# Altium schematic symbol library WE-RFI.SchLib: 80 symbols (part 1 of 2)
Pins are listed as number, name and electrical type; pins without a type are passive.

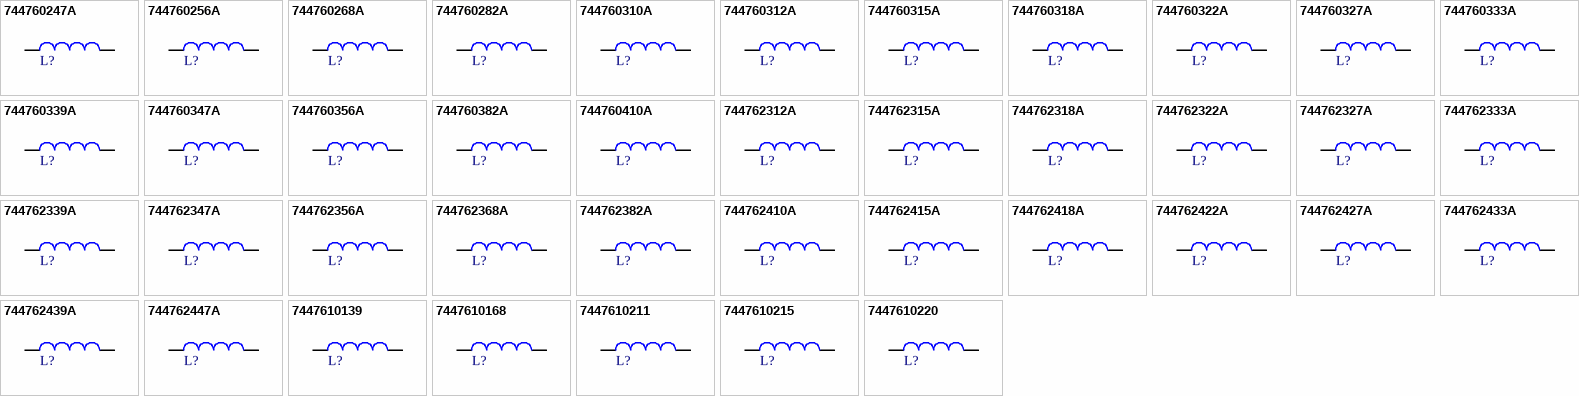
[diagram p0: symbols 744760247A to 7447610220]

## 744760247A
designator L?, comment 470nH  (value not drawn)
WE-RFI Ferrite SMT Inductor, size 0805, 470nH, 500mA, 375MHz; Manufacturer Part Number: 744760247A; Manufacturer: Wurth Elektronik; Case/Size Code: 0805; DC Resistance Max: 500mOhm; Impedance @100MHz: 280Ohm; Impedance Max: 4725Ohm; Impedance Max Test Condition: 700MHz; Inductance Tolerance: +/-5%; Q Factor Min: 45; Category: RF Inductors; Match Code: WE-RFI; ComponentLink1Description: Website Link; ComponentLink1URL: https://www.we-online.com/redexpert/article/744760247A?ad; ComponentLink2Description: Datasheet Link; ComponentLink2URL: https://www.we-online.com/redexpert/spec/744760247A?ad; Mount: Surface Mount; Operating Temperature Max: 85°C; Operating Temperature Min: -40°C; Packaging: Tape and Reel; Length: 2mm; Width: 1.25mm; Height: 1.2mm; Inductance: 470nH; Rated Current: 500mA; Self Resonant Frequency: 375MHz
footprint WE-RFI_0805
simulation model 0805A_744760247A_0.47u
pins: 1, 2

## 744760256A
designator L?, comment 560nH  (value not drawn)
WE-RFI Ferrite SMT Inductor, size 0805, 560nH, 450mA, 340MHz; Manufacturer Part Number: 744760256A; Manufacturer: Wurth Elektronik; Case/Size Code: 0805; DC Resistance Max: 550mOhm; Impedance @100MHz: 350Ohm; Impedance Max: 5570Ohm; Impedance Max Test Condition: 600MHz; Inductance Tolerance: +/-5%; Q Factor Min: 45; Category: RF Inductors; Match Code: WE-RFI; ComponentLink1Description: Website Link; ComponentLink1URL: https://www.we-online.com/redexpert/article/744760256A?ad; ComponentLink2Description: Datasheet Link; ComponentLink2URL: https://www.we-online.com/redexpert/spec/744760256A?ad; Mount: Surface Mount; Operating Temperature Max: 85°C; Operating Temperature Min: -40°C; Packaging: Tape and Reel; Length: 2mm; Width: 1.25mm; Height: 1.2mm; Inductance: 560nH; Rated Current: 450mA; Self Resonant Frequency: 340MHz
footprint WE-RFI_0805
simulation model 0805A_744760256A_0.56u
pins: 1, 2

## 744760268A
designator L?, comment 680nH  (value not drawn)
WE-RFI Ferrite SMT Inductor, size 0805, 680nH, 400mA, 188MHz; Manufacturer Part Number: 744760268A; Manufacturer: Wurth Elektronik; Case/Size Code: 0805; DC Resistance Max: 850mOhm; Impedance @100MHz: 420Ohm; Impedance Max: 6860Ohm; Impedance Max Test Condition: 550MHz; Inductance Tolerance: +/-5%; Q Factor Min: 35; Category: RF Inductors; Match Code: WE-RFI; ComponentLink1Description: Website Link; ComponentLink1URL: https://www.we-online.com/redexpert/article/744760268A?ad; ComponentLink2Description: Datasheet Link; ComponentLink2URL: https://www.we-online.com/redexpert/spec/744760268A?ad; Mount: Surface Mount; Operating Temperature Max: 85°C; Operating Temperature Min: -40°C; Packaging: Tape and Reel; Length: 2mm; Width: 1.25mm; Height: 1.2mm; Inductance: 680nH; Rated Current: 400mA; Self Resonant Frequency: 188MHz
footprint WE-RFI_0805
simulation model 0805A_744760268A_0.68u
pins: 1, 2

## 744760282A
designator L?, comment 820nH  (value not drawn)
WE-RFI Ferrite SMT Inductor, size 0805, 820nH, 300mA, 215MHz; Manufacturer Part Number: 744760282A; Manufacturer: Wurth Elektronik; Case/Size Code: 0805; DC Resistance Max: 1050mOhm; Impedance @100MHz: 520Ohm; Impedance Max: 8500Ohm; Impedance Max Test Condition: 500MHz; Inductance Tolerance: +/-5%; Q Factor Min: 35; Category: RF Inductors; Match Code: WE-RFI; ComponentLink1Description: Website Link; ComponentLink1URL: https://www.we-online.com/redexpert/article/744760282A?ad; ComponentLink2Description: Datasheet Link; ComponentLink2URL: https://www.we-online.com/redexpert/spec/744760282A?ad; Mount: Surface Mount; Operating Temperature Max: 85°C; Operating Temperature Min: -40°C; Packaging: Tape and Reel; Length: 2mm; Width: 1.25mm; Height: 1.2mm; Inductance: 820nH; Rated Current: 300mA; Self Resonant Frequency: 215MHz
footprint WE-RFI_0805
simulation model 0805A_744760282A_0.82u
pins: 1, 2

## 744760310A
designator L?, comment 1000nH  (value not drawn)
WE-RFI Ferrite SMT Inductor, size 0805, 1000nH, 180mA, 200MHz; Manufacturer Part Number: 744760310A; Manufacturer: Wurth Elektronik; Case/Size Code: 0805; DC Resistance Max: 1050mOhm; Impedance @100MHz: 620Ohm; Impedance Max: 9665Ohm; Impedance Max Test Condition: 450MHz; Inductance Tolerance: +/-5%; Q Factor Min: 35; Category: RF Inductors; Match Code: WE-RFI; ComponentLink1Description: Website Link; ComponentLink1URL: https://www.we-online.com/redexpert/article/744760310A?ad; ComponentLink2Description: Datasheet Link; ComponentLink2URL: https://www.we-online.com/redexpert/spec/744760310A?ad; Mount: Surface Mount; Operating Temperature Max: 85°C; Operating Temperature Min: -40°C; Packaging: Tape and Reel; Length: 2mm; Width: 1.25mm; Height: 1.2mm; Inductance: 1000nH; Rated Current: 180mA; Self Resonant Frequency: 200MHz
footprint WE-RFI_0805
simulation model 0805A_744760310A_1u
pins: 1, 2

## 744760312A
designator L?, comment 1200nH  (value not drawn)
WE-RFI Ferrite SMT Inductor, size 0805, 1200nH, 150mA, 200MHz; Manufacturer Part Number: 744760312A; Manufacturer: Wurth Elektronik; Case/Size Code: 0805; DC Resistance Max: 1200mOhm; Impedance @100MHz: 730Ohm; Impedance Max: 12500Ohm; Impedance Max Test Condition: 440MHz; Inductance Tolerance: +/-5%; Q Factor Min: 15; Category: RF Inductors; Match Code: WE-RFI; ComponentLink1Description: Website Link; ComponentLink1URL: https://www.we-online.com/redexpert/article/744760312A?ad; ComponentLink2Description: Datasheet Link; ComponentLink2URL: https://www.we-online.com/redexpert/spec/744760312A?ad; Mount: Surface Mount; Operating Temperature Max: 85°C; Operating Temperature Min: -40°C; Packaging: Tape and Reel; Length: 2mm; Width: 1.25mm; Height: 1.2mm; Inductance: 1200nH; Rated Current: 150mA; Self Resonant Frequency: 200MHz
footprint WE-RFI_0805
simulation model 0805A_744760312A_1.2u
pins: 1, 2

## 744760315A
designator L?, comment 1500nH  (value not drawn)
WE-RFI Ferrite SMT Inductor, size 0805, 1500nH, 130mA, 200MHz; Manufacturer Part Number: 744760315A; Manufacturer: Wurth Elektronik; Case/Size Code: 0805; DC Resistance Max: 1450mOhm; Impedance @100MHz: 950Ohm; Impedance Max: 15100Ohm; Impedance Max Test Condition: 390MHz; Inductance Tolerance: +/-5%; Q Factor Min: 15; Category: RF Inductors; Match Code: WE-RFI; ComponentLink1Description: Website Link; ComponentLink1URL: https://www.we-online.com/redexpert/article/744760315A?ad; ComponentLink2Description: Datasheet Link; ComponentLink2URL: https://www.we-online.com/redexpert/spec/744760315A?ad; Mount: Surface Mount; Operating Temperature Max: 85°C; Operating Temperature Min: -40°C; Packaging: Tape and Reel; Length: 2mm; Width: 1.25mm; Height: 1.2mm; Inductance: 1500nH; Rated Current: 130mA; Self Resonant Frequency: 200MHz
footprint WE-RFI_0805
simulation model 0805A_744760315A_1.5u
pins: 1, 2

## 744760318A
designator L?, comment 1800nH  (value not drawn)
WE-RFI Ferrite SMT Inductor, size 0805, 1800nH, 120mA, 120MHz; Manufacturer Part Number: 744760318A; Manufacturer: Wurth Elektronik; Case/Size Code: 0805; DC Resistance Max: 2000mOhm; Impedance @100MHz: 1160Ohm; Impedance Max: 19700Ohm; Impedance Max Test Condition: 340MHz; Inductance Tolerance: +/-5%; Q Factor Min: 15; Category: RF Inductors; Match Code: WE-RFI; ComponentLink1Description: Website Link; ComponentLink1URL: https://www.we-online.com/redexpert/article/744760318A?ad; ComponentLink2Description: Datasheet Link; ComponentLink2URL: https://www.we-online.com/redexpert/spec/744760318A?ad; Mount: Surface Mount; Operating Temperature Max: 85°C; Operating Temperature Min: -40°C; Packaging: Tape and Reel; Length: 2mm; Width: 1.25mm; Height: 1.2mm; Inductance: 1800nH; Rated Current: 120mA; Self Resonant Frequency: 120MHz
footprint WE-RFI_0805
simulation model 0805A_744760318A_1.8u
pins: 1, 2

## 744760322A
designator L?, comment 2200nH  (value not drawn)
WE-RFI Ferrite SMT Inductor, size 0805, 2200nH, 110mA, 110MHz; Manufacturer Part Number: 744760322A; Manufacturer: Wurth Elektronik; Case/Size Code: 0805; DC Resistance Max: 1750mOhm; Impedance @100MHz: 1300Ohm; Impedance Max: 11600Ohm; Impedance Max Test Condition: 300MHz; Inductance Tolerance: +/-5%; Q Factor Min: 15; Category: RF Inductors; Match Code: WE-RFI; ComponentLink1Description: Website Link; ComponentLink1URL: https://www.we-online.com/redexpert/article/744760322A?ad; ComponentLink2Description: Datasheet Link; ComponentLink2URL: https://www.we-online.com/redexpert/spec/744760322A?ad; Mount: Surface Mount; Operating Temperature Max: 85°C; Operating Temperature Min: -40°C; Packaging: Tape and Reel; Length: 2mm; Width: 1.25mm; Height: 1.2mm; Inductance: 2200nH; Rated Current: 110mA; Self Resonant Frequency: 110MHz
footprint WE-RFI_0805
simulation model 0805A_744760322A_2.2u
pins: 1, 2

## 744760327A
designator L?, comment 2700nH  (value not drawn)
WE-RFI Ferrite SMT Inductor, size 0805, 2700nH, 100mA, 100MHz; Manufacturer Part Number: 744760327A; Manufacturer: Wurth Elektronik; Case/Size Code: 0805; DC Resistance Max: 1750mOhm; Impedance @100MHz: 1650Ohm; Impedance Max: 14870Ohm; Impedance Max Test Condition: 290MHz; Inductance Tolerance: +/-5%; Q Factor Min: 15; Category: RF Inductors; Match Code: WE-RFI; ComponentLink1Description: Website Link; ComponentLink1URL: https://www.we-online.com/redexpert/article/744760327A?ad; ComponentLink2Description: Datasheet Link; ComponentLink2URL: https://www.we-online.com/redexpert/spec/744760327A?ad; Mount: Surface Mount; Operating Temperature Max: 85°C; Operating Temperature Min: -40°C; Packaging: Tape and Reel; Length: 2mm; Width: 1.25mm; Height: 1.2mm; Inductance: 2700nH; Rated Current: 100mA; Self Resonant Frequency: 100MHz
footprint WE-RFI_0805
simulation model 0805A_744760327A_2.7u
pins: 1, 2

## 744760333A
designator L?, comment 3300nH  (value not drawn)
WE-RFI Ferrite SMT Inductor, size 0805, 3300nH, 210mA, 70MHz; Manufacturer Part Number: 744760333A; Manufacturer: Wurth Elektronik; Case/Size Code: 0805; DC Resistance Max: 2000mOhm; Impedance @100MHz: 1980Ohm; Impedance Max: 18140Ohm; Impedance Max Test Condition: 250MHz; Inductance Tolerance: +/-5%; Q Factor Min: 15; Category: RF Inductors; Match Code: WE-RFI; ComponentLink1Description: Website Link; ComponentLink1URL: https://www.we-online.com/redexpert/article/744760333A?ad; ComponentLink2Description: Datasheet Link; ComponentLink2URL: https://www.we-online.com/redexpert/spec/744760333A?ad; Mount: Surface Mount; Operating Temperature Max: 85°C; Operating Temperature Min: -40°C; Packaging: Tape and Reel; Length: 2mm; Width: 1.25mm; Height: 1.2mm; Inductance: 3300nH; Rated Current: 210mA; Self Resonant Frequency: 70MHz
footprint WE-RFI_0805
simulation model 0805A_744760333A_3.3u
pins: 1, 2

## 744760339A
designator L?, comment 3900nH  (value not drawn)
WE-RFI Ferrite SMT Inductor, size 0805, 3900nH, 200mA, 60MHz; Manufacturer Part Number: 744760339A; Manufacturer: Wurth Elektronik; Case/Size Code: 0805; DC Resistance Max: 2150mOhm; Impedance @100MHz: 2300Ohm; Impedance Max: 20360Ohm; Impedance Max Test Condition: 250MHz; Inductance Tolerance: +/-5%; Q Factor Min: 15; Category: RF Inductors; Match Code: WE-RFI; ComponentLink1Description: Website Link; ComponentLink1URL: https://www.we-online.com/redexpert/article/744760339A?ad; ComponentLink2Description: Datasheet Link; ComponentLink2URL: https://www.we-online.com/redexpert/spec/744760339A?ad; Mount: Surface Mount; Operating Temperature Max: 85°C; Operating Temperature Min: -40°C; Packaging: Tape and Reel; Length: 2mm; Width: 1.25mm; Height: 1.2mm; Inductance: 3900nH; Rated Current: 200mA; Self Resonant Frequency: 60MHz
footprint WE-RFI_0805
simulation model 0805A_744760339A_3.9u
pins: 1, 2

## 744760347A
designator L?, comment 4700nH  (value not drawn)
WE-RFI Ferrite SMT Inductor, size 0805, 4700nH, 180mA, 50MHz; Manufacturer Part Number: 744760347A; Manufacturer: Wurth Elektronik; Case/Size Code: 0805; DC Resistance Max: 1900mOhm; Impedance @25MHz: 730Ohm; Impedance Max: 16780Ohm; Impedance Max Test Condition: 140MHz; Inductance Tolerance: +/-5%; Q Factor Min: 15; Category: RF Inductors; Match Code: WE-RFI; ComponentLink1Description: Website Link; ComponentLink1URL: https://www.we-online.com/redexpert/article/744760347A?ad; ComponentLink2Description: Datasheet Link; ComponentLink2URL: https://www.we-online.com/redexpert/spec/744760347A?ad; Mount: Surface Mount; Operating Temperature Max: 85°C; Operating Temperature Min: -40°C; Packaging: Tape and Reel; Length: 2mm; Width: 1.25mm; Height: 1.2mm; Inductance: 4700nH; Rated Current: 180mA; Self Resonant Frequency: 50MHz
footprint WE-RFI_0805
simulation model 0805A_744760347A_4.7u
pins: 1, 2

## 744760356A
designator L?, comment 5600nH  (value not drawn)
WE-RFI Ferrite SMT Inductor, size 0805, 5600nH, 160mA, 45MHz; Manufacturer Part Number: 744760356A; Manufacturer: Wurth Elektronik; Case/Size Code: 0805; DC Resistance Max: 2200mOhm; Impedance @25MHz: 830Ohm; Impedance Max: 17920Ohm; Impedance Max Test Condition: 110MHz; Inductance Tolerance: +/-5%; Q Factor Min: 15; Category: RF Inductors; Match Code: WE-RFI; ComponentLink1Description: Website Link; ComponentLink1URL: https://www.we-online.com/redexpert/article/744760356A?ad; ComponentLink2Description: Datasheet Link; ComponentLink2URL: https://www.we-online.com/redexpert/spec/744760356A?ad; Mount: Surface Mount; Operating Temperature Max: 85°C; Operating Temperature Min: -40°C; Packaging: Tape and Reel; Length: 2mm; Width: 1.25mm; Height: 1.2mm; Inductance: 5600nH; Rated Current: 160mA; Self Resonant Frequency: 45MHz
footprint WE-RFI_0805
simulation model 0805A_744760356A_5.6u
pins: 1, 2

## 744760382A
designator L?, comment 8200nH  (value not drawn)
WE-RFI Ferrite SMT Inductor, size 0805, 8200nH, 120mA, 40MHz; Manufacturer Part Number: 744760382A; Manufacturer: Wurth Elektronik; Case/Size Code: 0805; DC Resistance Max: 2400mOhm; Impedance @25MHz: 1180Ohm; Impedance Max: 25220Ohm; Impedance Max Test Condition: 105MHz; Inductance Tolerance: +/-5%; Q Factor Min: 15; Category: RF Inductors; Match Code: WE-RFI; ComponentLink1Description: Website Link; ComponentLink1URL: https://www.we-online.com/redexpert/article/744760382A?ad; ComponentLink2Description: Datasheet Link; ComponentLink2URL: https://www.we-online.com/redexpert/spec/744760382A?ad; Mount: Surface Mount; Operating Temperature Max: 85°C; Operating Temperature Min: -40°C; Packaging: Tape and Reel; Length: 2mm; Width: 1.25mm; Height: 1.2mm; Inductance: 8200nH; Rated Current: 120mA; Self Resonant Frequency: 40MHz
footprint WE-RFI_0805
simulation model 0805A_744760382A_8.2u
pins: 1, 2

## 744760410A
designator L?, comment 10000nH  (value not drawn)
WE-RFI Ferrite SMT Inductor, size 0805, 10000nH, 80mA, 40MHz; Manufacturer Part Number: 744760410A; Manufacturer: Wurth Elektronik; Case/Size Code: 0805; DC Resistance Max: 3600mOhm; Impedance @25MHz: 1490Ohm; Impedance Max: 31920Ohm; Impedance Max Test Condition: 105MHz; Inductance Tolerance: +/-5%; Q Factor Min: 15; Category: RF Inductors; Match Code: WE-RFI; ComponentLink1Description: Website Link; ComponentLink1URL: https://www.we-online.com/redexpert/article/744760410A?ad; ComponentLink2Description: Datasheet Link; ComponentLink2URL: https://www.we-online.com/redexpert/spec/744760410A?ad; Mount: Surface Mount; Operating Temperature Max: 85°C; Operating Temperature Min: -40°C; Packaging: Tape and Reel; Length: 2mm; Width: 1.25mm; Height: 1.2mm; Inductance: 10000nH; Rated Current: 80mA; Self Resonant Frequency: 40MHz
footprint WE-RFI_0805
simulation model 0805A_744760410A_10u
pins: 1, 2

## 744762312A
designator L?, comment 1200nH  (value not drawn)
WE-RFI Ferrite SMT Inductor, size 1008, 1200nH, 230mA, 280MHz; Manufacturer Part Number: 744762312A; Manufacturer: Wurth Elektronik; Case/Size Code: 1008; DC Resistance Max: 1300mOhm; Impedance @100MHz: 780Ohm; Impedance Max: 32000Ohm; Impedance Max Test Condition: 385MHz; Inductance Tolerance: +/-5%; Q Factor Min: 20; Category: RF Inductors; Match Code: WE-RFI; ComponentLink1Description: Website Link; ComponentLink1URL: https://www.we-online.com/redexpert/article/744762312A?ad; ComponentLink2Description: Datasheet Link; ComponentLink2URL: https://www.we-online.com/redexpert/spec/744762312A?ad; Mount: Surface Mount; Operating Temperature Max: 85°C; Operating Temperature Min: -40°C; Packaging: Tape and Reel; Length: 2.5mm; Width: 2mm; Height: 1.6mm; Inductance: 1200nH; Rated Current: 230mA; Self Resonant Frequency: 280MHz
footprint WE-RFI_1008
simulation model 1008A_744762312A_1.2u
pins: 1, 2

## 744762315A
designator L?, comment 1500nH  (value not drawn)
WE-RFI Ferrite SMT Inductor, size 1008, 1500nH, 220mA, 250MHz; Manufacturer Part Number: 744762315A; Manufacturer: Wurth Elektronik; Case/Size Code: 1008; DC Resistance Max: 1650mOhm; Impedance @100MHz: 1000Ohm; Impedance Max: 65000Ohm; Impedance Max Test Condition: 350MHz; Inductance Tolerance: +/-5%; Q Factor Min: 20; Category: RF Inductors; Match Code: WE-RFI; ComponentLink1Description: Website Link; ComponentLink1URL: https://www.we-online.com/redexpert/article/744762315A?ad; ComponentLink2Description: Datasheet Link; ComponentLink2URL: https://www.we-online.com/redexpert/spec/744762315A?ad; Mount: Surface Mount; Operating Temperature Max: 85°C; Operating Temperature Min: -40°C; Packaging: Tape and Reel; Length: 2.5mm; Width: 2mm; Height: 1.6mm; Inductance: 1500nH; Rated Current: 220mA; Self Resonant Frequency: 250MHz
footprint WE-RFI_1008
simulation model 1008A_744762315A_1.5u
pins: 1, 2

## 744762318A
designator L?, comment 1800nH  (value not drawn)
WE-RFI Ferrite SMT Inductor, size 1008, 1800nH, 210mA, 200MHz; Manufacturer Part Number: 744762318A; Manufacturer: Wurth Elektronik; Case/Size Code: 1008; DC Resistance Max: 2200mOhm; Impedance @100MHz: 1200Ohm; Impedance Max: 95000Ohm; Impedance Max Test Condition: 310MHz; Inductance Tolerance: +/-5%; Q Factor Min: 20; Category: RF Inductors; Match Code: WE-RFI; ComponentLink1Description: Website Link; ComponentLink1URL: https://www.we-online.com/redexpert/article/744762318A?ad; ComponentLink2Description: Datasheet Link; ComponentLink2URL: https://www.we-online.com/redexpert/spec/744762318A?ad; Mount: Surface Mount; Operating Temperature Max: 85°C; Operating Temperature Min: -40°C; Packaging: Tape and Reel; Length: 2.5mm; Width: 2mm; Height: 1.6mm; Inductance: 1800nH; Rated Current: 210mA; Self Resonant Frequency: 200MHz
footprint WE-RFI_1008
simulation model 1008A_744762318A_1.8u
pins: 1, 2

## 744762322A
designator L?, comment 2200nH  (value not drawn)
WE-RFI Ferrite SMT Inductor, size 1008, 2200nH, 200mA, 160MHz; Manufacturer Part Number: 744762322A; Manufacturer: Wurth Elektronik; Case/Size Code: 1008; DC Resistance Max: 2350mOhm; Impedance @100MHz: 1550Ohm; Impedance Max: 105000Ohm; Impedance Max Test Condition: 270MHz; Inductance Tolerance: +/-5%; Q Factor Min: 20; Category: RF Inductors; Match Code: WE-RFI; ComponentLink1Description: Website Link; ComponentLink1URL: https://www.we-online.com/redexpert/article/744762322A?ad; ComponentLink2Description: Datasheet Link; ComponentLink2URL: https://www.we-online.com/redexpert/spec/744762322A?ad; Mount: Surface Mount; Operating Temperature Max: 85°C; Operating Temperature Min: -40°C; Packaging: Tape and Reel; Length: 2.5mm; Width: 2mm; Height: 1.6mm; Inductance: 2200nH; Rated Current: 200mA; Self Resonant Frequency: 160MHz
footprint WE-RFI_1008
simulation model 1008A_744762322A_2.2u
pins: 1, 2

## 744762327A
designator L?, comment 2700nH  (value not drawn)
WE-RFI Ferrite SMT Inductor, size 1008, 2700nH, 195mA, 130MHz; Manufacturer Part Number: 744762327A; Manufacturer: Wurth Elektronik; Case/Size Code: 1008; DC Resistance Max: 2600mOhm; Impedance @25MHz: 450Ohm; Impedance Max: 40000Ohm; Impedance Max Test Condition: 150MHz; Inductance Tolerance: +/-5%; Q Factor Min: 20; Category: RF Inductors; Match Code: WE-RFI; ComponentLink1Description: Website Link; ComponentLink1URL: https://www.we-online.com/redexpert/article/744762327A?ad; ComponentLink2Description: Datasheet Link; ComponentLink2URL: https://www.we-online.com/redexpert/spec/744762327A?ad; Mount: Surface Mount; Operating Temperature Max: 85°C; Operating Temperature Min: -40°C; Packaging: Tape and Reel; Length: 2.5mm; Width: 2mm; Height: 1.6mm; Inductance: 2700nH; Rated Current: 195mA; Self Resonant Frequency: 130MHz
footprint WE-RFI_1008
simulation model 1008A_744762327A_2.7u
pins: 1, 2

## 744762333A
designator L?, comment 3300nH  (value not drawn)
WE-RFI Ferrite SMT Inductor, size 1008, 3300nH, 185mA, 80MHz; Manufacturer Part Number: 744762333A; Manufacturer: Wurth Elektronik; Case/Size Code: 1008; DC Resistance Max: 2850mOhm; Impedance @25MHz: 550Ohm; Impedance Max: 38000Ohm; Impedance Max Test Condition: 120MHz; Inductance Tolerance: +/-5%; Q Factor Min: 20; Category: RF Inductors; Match Code: WE-RFI; ComponentLink1Description: Website Link; ComponentLink1URL: https://www.we-online.com/redexpert/article/744762333A?ad; ComponentLink2Description: Datasheet Link; ComponentLink2URL: https://www.we-online.com/redexpert/spec/744762333A?ad; Mount: Surface Mount; Operating Temperature Max: 85°C; Operating Temperature Min: -40°C; Packaging: Tape and Reel; Length: 2.5mm; Width: 2mm; Height: 1.6mm; Inductance: 3300nH; Rated Current: 185mA; Self Resonant Frequency: 80MHz
footprint WE-RFI_1008
simulation model 1008A_744762333A_3.3u
pins: 1, 2

## 744762339A
designator L?, comment 3900nH  (value not drawn)
WE-RFI Ferrite SMT Inductor, size 1008, 3900nH, 180mA, 50MHz; Manufacturer Part Number: 744762339A; Manufacturer: Wurth Elektronik; Case/Size Code: 1008; DC Resistance Max: 4000mOhm; Impedance @25MHz: 650Ohm; Impedance Max: 35000Ohm; Impedance Max Test Condition: 95MHz; Inductance Tolerance: +/-5%; Q Factor Min: 20; Category: RF Inductors; Match Code: WE-RFI; ComponentLink1Description: Website Link; ComponentLink1URL: https://www.we-online.com/redexpert/article/744762339A?ad; ComponentLink2Description: Datasheet Link; ComponentLink2URL: https://www.we-online.com/redexpert/spec/744762339A?ad; Mount: Surface Mount; Operating Temperature Max: 85°C; Operating Temperature Min: -40°C; Packaging: Tape and Reel; Length: 2.5mm; Width: 2mm; Height: 1.6mm; Inductance: 3900nH; Rated Current: 180mA; Self Resonant Frequency: 50MHz
footprint WE-RFI_1008
simulation model 1008A_744762339A_3.9u
pins: 1, 2

## 744762347A
designator L?, comment 4700nH  (value not drawn)
WE-RFI Ferrite SMT Inductor, size 1008, 4700nH, 175mA, 45MHz; Manufacturer Part Number: 744762347A; Manufacturer: Wurth Elektronik; Case/Size Code: 1008; DC Resistance Max: 4300mOhm; Impedance @25MHz: 800Ohm; Impedance Max: 38000Ohm; Impedance Max Test Condition: 85MHz; Inductance Tolerance: +/-5%; Q Factor Min: 20; Category: RF Inductors; Match Code: WE-RFI; ComponentLink1Description: Website Link; ComponentLink1URL: https://www.we-online.com/redexpert/article/744762347A?ad; ComponentLink2Description: Datasheet Link; ComponentLink2URL: https://www.we-online.com/redexpert/spec/744762347A?ad; Mount: Surface Mount; Operating Temperature Max: 85°C; Operating Temperature Min: -40°C; Packaging: Tape and Reel; Length: 2.5mm; Width: 2mm; Height: 1.6mm; Inductance: 4700nH; Rated Current: 175mA; Self Resonant Frequency: 45MHz
footprint WE-RFI_1008
simulation model 1008A_744762347A_4.7u
pins: 1, 2

## 744762356A
designator L?, comment 5600nH  (value not drawn)
WE-RFI Ferrite SMT Inductor, size 1008, 5600nH, 170mA, 42MHz; Manufacturer Part Number: 744762356A; Manufacturer: Wurth Elektronik; Case/Size Code: 1008; DC Resistance Max: 2600mOhm; Impedance @25MHz: 1000Ohm; Impedance Max: 38000Ohm; Impedance Max Test Condition: 110MHz; Inductance Tolerance: +/-5%; Q Factor Min: 20; Category: RF Inductors; Match Code: WE-RFI; ComponentLink1Description: Website Link; ComponentLink1URL: https://www.we-online.com/redexpert/article/744762356A?ad; ComponentLink2Description: Datasheet Link; ComponentLink2URL: https://www.we-online.com/redexpert/spec/744762356A?ad; Mount: Surface Mount; Operating Temperature Max: 85°C; Operating Temperature Min: -40°C; Packaging: Tape and Reel; Length: 2.5mm; Width: 2mm; Height: 1.6mm; Inductance: 5600nH; Rated Current: 170mA; Self Resonant Frequency: 42MHz
footprint WE-RFI_1008
simulation model 1008A_744762356A_5.6u
pins: 1, 2

## 744762368A
designator L?, comment 6800nH  (value not drawn)
WE-RFI Ferrite SMT Inductor, size 1008, 6800nH, 165mA, 39MHz; Manufacturer Part Number: 744762368A; Manufacturer: Wurth Elektronik; Case/Size Code: 1008; DC Resistance Max: 2800mOhm; Impedance @25MHz: 1200Ohm; Impedance Max: 37000Ohm; Impedance Max Test Condition: 85MHz; Inductance Tolerance: +/-5%; Q Factor Min: 20; Category: RF Inductors; Match Code: WE-RFI; ComponentLink1Description: Website Link; ComponentLink1URL: https://www.we-online.com/redexpert/article/744762368A?ad; ComponentLink2Description: Datasheet Link; ComponentLink2URL: https://www.we-online.com/redexpert/spec/744762368A?ad; Mount: Surface Mount; Operating Temperature Max: 85°C; Operating Temperature Min: -40°C; Packaging: Tape and Reel; Length: 2.5mm; Width: 2mm; Height: 1.6mm; Inductance: 6800nH; Rated Current: 165mA; Self Resonant Frequency: 39MHz
footprint WE-RFI_1008
simulation model 1008A_744762368A_6.8u
pins: 1, 2

## 744762382A
designator L?, comment 8200nH  (value not drawn)
WE-RFI Ferrite SMT Inductor, size 1008, 8200nH, 160mA, 36MHz; Manufacturer Part Number: 744762382A; Manufacturer: Wurth Elektronik; Case/Size Code: 1008; DC Resistance Max: 3050mOhm; Impedance @25MHz: 1600Ohm; Impedance Max: 35000Ohm; Impedance Max Test Condition: 65MHz; Inductance Tolerance: +/-5%; Q Factor Min: 20; Category: RF Inductors; Match Code: WE-RFI; ComponentLink1Description: Website Link; ComponentLink1URL: https://www.we-online.com/redexpert/article/744762382A?ad; ComponentLink2Description: Datasheet Link; ComponentLink2URL: https://www.we-online.com/redexpert/spec/744762382A?ad; Mount: Surface Mount; Operating Temperature Max: 85°C; Operating Temperature Min: -40°C; Packaging: Tape and Reel; Length: 2.5mm; Width: 2mm; Height: 1.6mm; Inductance: 8200nH; Rated Current: 160mA; Self Resonant Frequency: 36MHz
footprint WE-RFI_1008
simulation model 1008A_744762382A_8.2u
pins: 1, 2

## 744762410A
designator L?, comment 10000nH  (value not drawn)
WE-RFI Ferrite SMT Inductor, size 1008, 10000nH, 150mA, 33MHz; Manufacturer Part Number: 744762410A; Manufacturer: Wurth Elektronik; Case/Size Code: 1008; DC Resistance Max: 3500mOhm; Impedance @10MHz: 670Ohm; Impedance Max: 32000Ohm; Impedance Max Test Condition: 55MHz; Inductance Tolerance: +/-5%; Q Factor Min: 15; Category: RF Inductors; Match Code: WE-RFI; ComponentLink1Description: Website Link; ComponentLink1URL: https://www.we-online.com/redexpert/article/744762410A?ad; ComponentLink2Description: Datasheet Link; ComponentLink2URL: https://www.we-online.com/redexpert/spec/744762410A?ad; Mount: Surface Mount; Operating Temperature Max: 85°C; Operating Temperature Min: -40°C; Packaging: Tape and Reel; Length: 2.5mm; Width: 2mm; Height: 1.6mm; Inductance: 10000nH; Rated Current: 150mA; Self Resonant Frequency: 33MHz
footprint WE-RFI_1008
simulation model 1008A_744762410A_10u
pins: 1, 2

## 744762415A
designator L?, comment 15000nH  (value not drawn)
WE-RFI Ferrite SMT Inductor, size 1008, 15000nH, 130mA, 26MHz; Manufacturer Part Number: 744762415A; Manufacturer: Wurth Elektronik; Case/Size Code: 1008; DC Resistance Max: 4000mOhm; Impedance @10MHz: 950Ohm; Impedance Max: 70000Ohm; Impedance Max Test Condition: 70MHz; Inductance Tolerance: +/-5%; Q Factor Min: 15; Category: RF Inductors; Match Code: WE-RFI; ComponentLink1Description: Website Link; ComponentLink1URL: https://www.we-online.com/redexpert/article/744762415A?ad; ComponentLink2Description: Datasheet Link; ComponentLink2URL: https://www.we-online.com/redexpert/spec/744762415A?ad; Mount: Surface Mount; Operating Temperature Max: 85°C; Operating Temperature Min: -40°C; Packaging: Tape and Reel; Length: 2.5mm; Width: 2mm; Height: 1.6mm; Inductance: 15000nH; Rated Current: 130mA; Self Resonant Frequency: 26MHz
footprint WE-RFI_1008
simulation model 1008A_744762415A_15u
pins: 1, 2

## 744762418A
designator L?, comment 18000nH  (value not drawn)
WE-RFI Ferrite SMT Inductor, size 1008, 18000nH, 120mA, 24MHz; Manufacturer Part Number: 744762418A; Manufacturer: Wurth Elektronik; Case/Size Code: 1008; DC Resistance Max: 4500mOhm; Impedance @10MHz: 1300Ohm; Impedance Max: 35000Ohm; Impedance Max Test Condition: 30MHz; Inductance Tolerance: +/-5%; Q Factor Min: 15; Category: RF Inductors; Match Code: WE-RFI; ComponentLink1Description: Website Link; ComponentLink1URL: https://www.we-online.com/redexpert/article/744762418A?ad; ComponentLink2Description: Datasheet Link; ComponentLink2URL: https://www.we-online.com/redexpert/spec/744762418A?ad; Mount: Surface Mount; Operating Temperature Max: 85°C; Operating Temperature Min: -40°C; Packaging: Tape and Reel; Length: 2.5mm; Width: 2mm; Height: 1.6mm; Inductance: 18000nH; Rated Current: 120mA; Self Resonant Frequency: 24MHz
footprint WE-RFI_1008
simulation model 1008A_744762418A_18u
pins: 1, 2

## 744762422A
designator L?, comment 22000nH  (value not drawn)
WE-RFI Ferrite SMT Inductor, size 1008, 22000nH, 110mA, 22MHz; Manufacturer Part Number: 744762422A; Manufacturer: Wurth Elektronik; Case/Size Code: 1008; DC Resistance Max: 5000mOhm; Impedance @10MHz: 1400Ohm; Impedance Max: 70000Ohm; Impedance Max Test Condition: 50MHz; Inductance Tolerance: +/-5%; Q Factor Min: 15; Category: RF Inductors; Match Code: WE-RFI; ComponentLink1Description: Website Link; ComponentLink1URL: https://www.we-online.com/redexpert/article/744762422A?ad; ComponentLink2Description: Datasheet Link; ComponentLink2URL: https://www.we-online.com/redexpert/spec/744762422A?ad; Mount: Surface Mount; Operating Temperature Max: 85°C; Operating Temperature Min: -40°C; Packaging: Tape and Reel; Length: 2.5mm; Width: 2mm; Height: 1.6mm; Inductance: 22000nH; Rated Current: 110mA; Self Resonant Frequency: 22MHz
footprint WE-RFI_1008
simulation model 1008A_744762422A_22u
pins: 1, 2

## 744762427A
designator L?, comment 27000nH  (value not drawn)
WE-RFI Ferrite SMT Inductor, size 1008, 27000nH, 95mA, 21MHz; Manufacturer Part Number: 744762427A; Manufacturer: Wurth Elektronik; Case/Size Code: 1008; DC Resistance Max: 6000mOhm; Impedance @10MHz: 1900Ohm; Impedance Max: 86000Ohm; Impedance Max Test Condition: 45MHz; Inductance Tolerance: +/-5%; Q Factor Min: 15; Category: RF Inductors; Match Code: WE-RFI; ComponentLink1Description: Website Link; ComponentLink1URL: https://www.we-online.com/redexpert/article/744762427A?ad; ComponentLink2Description: Datasheet Link; ComponentLink2URL: https://www.we-online.com/redexpert/spec/744762427A?ad; Mount: Surface Mount; Operating Temperature Max: 85°C; Operating Temperature Min: -40°C; Packaging: Tape and Reel; Length: 2.5mm; Width: 2mm; Height: 1.6mm; Inductance: 27000nH; Rated Current: 95mA; Self Resonant Frequency: 21MHz
footprint WE-RFI_1008
simulation model 1008A_744762427A_27u
pins: 1, 2

## 744762433A
designator L?, comment 33000nH  (value not drawn)
WE-RFI Ferrite SMT Inductor, size 1008, 33000nH, 85mA, 20MHz; Manufacturer Part Number: 744762433A; Manufacturer: Wurth Elektronik; Case/Size Code: 1008; DC Resistance Max: 6500mOhm; Impedance @10MHz: 2500Ohm; Impedance Max: 75000Ohm; Impedance Max Test Condition: 30MHz; Inductance Tolerance: +/-5%; Q Factor Min: 15; Category: RF Inductors; Match Code: WE-RFI; ComponentLink1Description: Website Link; ComponentLink1URL: https://www.we-online.com/redexpert/article/744762433A?ad; ComponentLink2Description: Datasheet Link; ComponentLink2URL: https://www.we-online.com/redexpert/spec/744762433A?ad; Mount: Surface Mount; Operating Temperature Max: 85°C; Operating Temperature Min: -40°C; Packaging: Tape and Reel; Length: 2.5mm; Width: 2mm; Height: 1.6mm; Inductance: 33000nH; Rated Current: 85mA; Self Resonant Frequency: 20MHz
footprint WE-RFI_1008
simulation model 1008A_744762433A_33u
pins: 1, 2

## 744762439A
designator L?, comment 39000nH  (value not drawn)
WE-RFI Ferrite SMT Inductor, size 1008, 39000nH, 60mA, 18MHz; Manufacturer Part Number: 744762439A; Manufacturer: Wurth Elektronik; Case/Size Code: 1008; DC Resistance Max: 8500mOhm; Impedance @10MHz: 2900Ohm; Impedance Max: 90000Ohm; Impedance Max Test Condition: 30MHz; Inductance Tolerance: +/-5%; Q Factor Min: 15; Category: RF Inductors; Match Code: WE-RFI; ComponentLink1Description: Website Link; ComponentLink1URL: https://www.we-online.com/redexpert/article/744762439A?ad; ComponentLink2Description: Datasheet Link; ComponentLink2URL: https://www.we-online.com/redexpert/spec/744762439A?ad; Mount: Surface Mount; Operating Temperature Max: 85°C; Operating Temperature Min: -40°C; Packaging: Tape and Reel; Length: 2.5mm; Width: 2mm; Height: 1.6mm; Inductance: 39000nH; Rated Current: 60mA; Self Resonant Frequency: 18MHz
footprint WE-RFI_1008
simulation model 1008A_744762439A_39u
pins: 1, 2

## 744762447A
designator L?, comment 47000nH  (value not drawn)
WE-RFI Ferrite SMT Inductor, size 1008, 47000nH, 45mA, 17MHz; Manufacturer Part Number: 744762447A; Manufacturer: Wurth Elektronik; Case/Size Code: 1008; DC Resistance Max: 14000mOhm; Impedance @10MHz: 3400Ohm; Impedance Max: 125000Ohm; Impedance Max Test Condition: 30MHz; Inductance Tolerance: +/-5%; Q Factor Min: 15; Category: RF Inductors; Match Code: WE-RFI; ComponentLink1Description: Website Link; ComponentLink1URL: https://www.we-online.com/redexpert/article/744762447A?ad; ComponentLink2Description: Datasheet Link; ComponentLink2URL: https://www.we-online.com/redexpert/spec/744762447A?ad; Mount: Surface Mount; Operating Temperature Max: 85°C; Operating Temperature Min: -40°C; Packaging: Tape and Reel; Length: 2.5mm; Width: 2mm; Height: 1.6mm; Inductance: 47000nH; Rated Current: 45mA; Self Resonant Frequency: 17MHz
footprint WE-RFI_1008
simulation model 1008A_744762447A_47u
pins: 1, 2

## 7447610139
designator L?, comment 39nH  (value not drawn)
WE-RFI Ferrite SMT Inductor, size 0603, 39nH, 1170mA, 2320MHz; Manufacturer Part Number: 7447610139; Manufacturer: Wurth Elektronik; Case/Size Code: 0603; DC Resistance Max: 42mOhm; Impedance @100MHz: 20Ohm; Impedance Max: 160Ohm; Inductance Tolerance: +/-5%; Q Factor: 12; Category: RF Inductors; Match Code: WE-RFI; ComponentLink1Description: Website Link; ComponentLink1URL: https://www.we-online.com/redexpert/article/7447610139?ad; ComponentLink2Description: Datasheet Link; ComponentLink2URL: https://www.we-online.com/redexpert/spec/7447610139?ad; Mount: Surface Mount; Operating Temperature Max: 85°C; Operating Temperature Min: -40°C; Packaging: Tape and Reel; Length: 1.65mm; Width: 1.1mm; Height: 0.9mm; Impedance Max Test Condition: 2320MHz; Inductance: 39nH; Rated Current: 1170mA; Self Resonant Frequency: 2320MHz
footprint WE-RFI_0603
simulation model 0603_7447610139_0.039u
pins: 1, 2

## 7447610168
designator L?, comment 68nH  (value not drawn)
WE-RFI Ferrite SMT Inductor, size 0603, 68nH, 1050mA, 1925MHz; Manufacturer Part Number: 7447610168; Manufacturer: Wurth Elektronik; Case/Size Code: 0603; DC Resistance Max: 50mOhm; Impedance @100MHz: 35Ohm; Impedance Max: 265Ohm; Inductance Tolerance: +/-5%; Q Factor: 13; Category: RF Inductors; Match Code: WE-RFI; ComponentLink1Description: Website Link; ComponentLink1URL: https://www.we-online.com/redexpert/article/7447610168?ad; ComponentLink2Description: Datasheet Link; ComponentLink2URL: https://www.we-online.com/redexpert/spec/7447610168?ad; Mount: Surface Mount; Operating Temperature Max: 85°C; Operating Temperature Min: -40°C; Packaging: Tape and Reel; Length: 1.65mm; Width: 1.1mm; Height: 0.9mm; Impedance Max Test Condition: 1925MHz; Inductance: 68nH; Rated Current: 1050mA; Self Resonant Frequency: 1925MHz
footprint WE-RFI_0603
simulation model 0603_7447610168_0.068u
pins: 1, 2

## 7447610211
designator L?, comment 110nH  (value not drawn)
WE-RFI Ferrite SMT Inductor, size 0603, 110nH, 750mA, 1925MHz; Manufacturer Part Number: 7447610211; Manufacturer: Wurth Elektronik; Case/Size Code: 0603; DC Resistance Max: 78mOhm; Impedance @100MHz: 60Ohm; Impedance Max: 540Ohm; Inductance Tolerance: +/-5%; Q Factor: 13; Category: RF Inductors; Match Code: WE-RFI; ComponentLink1Description: Website Link; ComponentLink1URL: https://www.we-online.com/redexpert/article/7447610211?ad; ComponentLink2Description: Datasheet Link; ComponentLink2URL: https://www.we-online.com/redexpert/spec/7447610211?ad; Mount: Surface Mount; Operating Temperature Max: 85°C; Operating Temperature Min: -40°C; Packaging: Tape and Reel; Length: 1.65mm; Width: 1.1mm; Height: 0.9mm; Impedance Max Test Condition: 1925MHz; Inductance: 110nH; Rated Current: 750mA; Self Resonant Frequency: 1925MHz
footprint WE-RFI_0603
simulation model 0603_7447610211_0.11u
pins: 1, 2

## 7447610215
designator L?, comment 150nH  (value not drawn)
WE-RFI Ferrite SMT Inductor, size 0603, 150nH, 720mA, 1885MHz; Manufacturer Part Number: 7447610215; Manufacturer: Wurth Elektronik; Case/Size Code: 0603; DC Resistance Max: 90mOhm; Impedance @100MHz: 80Ohm; Impedance Max: 705Ohm; Inductance Tolerance: +/-5%; Q Factor: 13; Category: RF Inductors; Match Code: WE-RFI; ComponentLink1Description: Website Link; ComponentLink1URL: https://www.we-online.com/redexpert/article/7447610215?ad; ComponentLink2Description: Datasheet Link; ComponentLink2URL: https://www.we-online.com/redexpert/spec/7447610215?ad; Mount: Surface Mount; Operating Temperature Max: 85°C; Operating Temperature Min: -40°C; Packaging: Tape and Reel; Length: 1.65mm; Width: 1.1mm; Height: 0.9mm; Impedance Max Test Condition: 1885MHz; Inductance: 150nH; Rated Current: 720mA; Self Resonant Frequency: 1885MHz
footprint WE-RFI_0603
simulation model 0603_7447610215_0.15u
pins: 1, 2

## 7447610220
designator L?, comment 200nH  (value not drawn)
WE-RFI Ferrite SMT Inductor, size 0603, 200nH, 700mA, 1730MHz; Manufacturer Part Number: 7447610220; Manufacturer: Wurth Elektronik; Case/Size Code: 0603; DC Resistance Max: 105mOhm; Impedance @100MHz: 105Ohm; Impedance Max: 860Ohm; Inductance Tolerance: +/-5%; Q Factor: 13; Category: RF Inductors; Match Code: WE-RFI; ComponentLink1Description: Website Link; ComponentLink1URL: https://www.we-online.com/redexpert/article/7447610220?ad; ComponentLink2Description: Datasheet Link; ComponentLink2URL: https://www.we-online.com/redexpert/spec/7447610220?ad; Mount: Surface Mount; Operating Temperature Max: 85°C; Operating Temperature Min: -40°C; Packaging: Tape and Reel; Length: 1.65mm; Width: 1.1mm; Height: 0.9mm; Impedance Max Test Condition: 1730MHz; Inductance: 200nH; Rated Current: 700mA; Self Resonant Frequency: 1730MHz
footprint WE-RFI_0603
simulation model 0603_7447610220_0.2u
pins: 1, 2

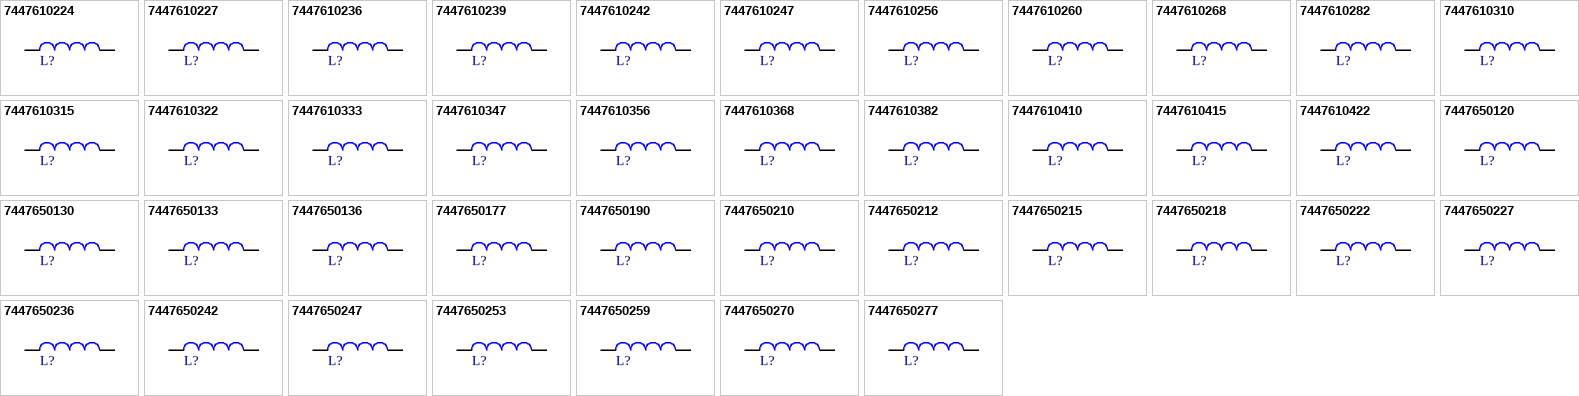
[diagram p1: symbols 7447610224 to 7447650277]

## 7447610224
designator L?, comment 240nH  (value not drawn)
WE-RFI Ferrite SMT Inductor, size 0603, 240nH, 490mA, 1345MHz; Manufacturer Part Number: 7447610224; Manufacturer: Wurth Elektronik; Case/Size Code: 0603; DC Resistance Max: 180mOhm; Impedance @100MHz: 125Ohm; Impedance Max: 1215Ohm; Inductance Tolerance: +/-5%; Q Factor: 13; Category: RF Inductors; Match Code: WE-RFI; ComponentLink1Description: Website Link; ComponentLink1URL: https://www.we-online.com/redexpert/article/7447610224?ad; ComponentLink2Description: Datasheet Link; ComponentLink2URL: https://www.we-online.com/redexpert/spec/7447610224?ad; Mount: Surface Mount; Operating Temperature Max: 85°C; Operating Temperature Min: -40°C; Packaging: Tape and Reel; Length: 1.65mm; Width: 1.1mm; Height: 0.9mm; Impedance Max Test Condition: 1345MHz; Inductance: 240nH; Rated Current: 490mA; Self Resonant Frequency: 1345MHz
footprint WE-RFI_0603
simulation model 0603_7447610224_0.24u
pins: 1, 2

## 7447610227
designator L?, comment 270nH  (value not drawn)
WE-RFI Ferrite SMT Inductor, size 0603, 270nH, 480mA, 1540MHz; Manufacturer Part Number: 7447610227; Manufacturer: Wurth Elektronik; Case/Size Code: 0603; DC Resistance Max: 165mOhm; Impedance @100MHz: 140Ohm; Impedance Max: 1255Ohm; Inductance Tolerance: +/-5%; Q Factor: 13; Category: RF Inductors; Match Code: WE-RFI; ComponentLink1Description: Website Link; ComponentLink1URL: https://www.we-online.com/redexpert/article/7447610227?ad; ComponentLink2Description: Datasheet Link; ComponentLink2URL: https://www.we-online.com/redexpert/spec/7447610227?ad; Mount: Surface Mount; Operating Temperature Max: 85°C; Operating Temperature Min: -40°C; Packaging: Tape and Reel; Length: 1.65mm; Width: 1.1mm; Height: 0.9mm; Impedance Max Test Condition: 1540MHz; Inductance: 270nH; Rated Current: 480mA; Self Resonant Frequency: 1540MHz
footprint WE-RFI_0603
simulation model 0603_7447610227_0.27u
pins: 1, 2

## 7447610236
designator L?, comment 360nH  (value not drawn)
WE-RFI Ferrite SMT Inductor, size 0603, 360nH, 470mA, 1040MHz; Manufacturer Part Number: 7447610236; Manufacturer: Wurth Elektronik; Case/Size Code: 0603; DC Resistance Max: 185mOhm; Impedance @100MHz: 190Ohm; Impedance Max: 1840Ohm; Inductance Tolerance: +/-5%; Q Factor: 13; Category: RF Inductors; Match Code: WE-RFI; ComponentLink1Description: Website Link; ComponentLink1URL: https://www.we-online.com/redexpert/article/7447610236?ad; ComponentLink2Description: Datasheet Link; ComponentLink2URL: https://www.we-online.com/redexpert/spec/7447610236?ad; Mount: Surface Mount; Operating Temperature Max: 85°C; Operating Temperature Min: -40°C; Packaging: Tape and Reel; Length: 1.65mm; Width: 1.1mm; Height: 0.9mm; Impedance Max Test Condition: 1040MHz; Inductance: 360nH; Rated Current: 470mA; Self Resonant Frequency: 1040MHz
footprint WE-RFI_0603
simulation model 0603_7447610236_0.36u
pins: 1, 2

## 7447610239
designator L?, comment 390nH  (value not drawn)
WE-RFI Ferrite SMT Inductor, size 0603, 390nH, 365mA, 990MHz; Manufacturer Part Number: 7447610239; Manufacturer: Wurth Elektronik; Case/Size Code: 0603; DC Resistance Max: 285mOhm; Impedance @100MHz: 210Ohm; Impedance Max: 1950Ohm; Inductance Tolerance: +/-5%; Q Factor: 13; Category: RF Inductors; Match Code: WE-RFI; ComponentLink1Description: Website Link; ComponentLink1URL: https://www.we-online.com/redexpert/article/7447610239?ad; ComponentLink2Description: Datasheet Link; ComponentLink2URL: https://www.we-online.com/redexpert/spec/7447610239?ad; Mount: Surface Mount; Operating Temperature Max: 85°C; Operating Temperature Min: -40°C; Packaging: Tape and Reel; Length: 1.65mm; Width: 1.1mm; Height: 0.9mm; Impedance Max Test Condition: 990MHz; Inductance: 390nH; Rated Current: 365mA; Self Resonant Frequency: 990MHz
footprint WE-RFI_0603
simulation model 0603_7447610239_0.39u
pins: 1, 2

## 7447610242
designator L?, comment 420nH  (value not drawn)
WE-RFI Ferrite SMT Inductor, size 0603, 420nH, 425mA, 1110MHz; Manufacturer Part Number: 7447610242; Manufacturer: Wurth Elektronik; Case/Size Code: 0603; DC Resistance Max: 255mOhm; Impedance @100MHz: 220Ohm; Impedance Max: 2000Ohm; Inductance Tolerance: +/-5%; Q Factor: 13; Category: RF Inductors; Match Code: WE-RFI; ComponentLink1Description: Website Link; ComponentLink1URL: https://www.we-online.com/redexpert/article/7447610242?ad; ComponentLink2Description: Datasheet Link; ComponentLink2URL: https://www.we-online.com/redexpert/spec/7447610242?ad; Mount: Surface Mount; Operating Temperature Max: 85°C; Operating Temperature Min: -40°C; Packaging: Tape and Reel; Length: 1.65mm; Width: 1.1mm; Height: 0.9mm; Impedance Max Test Condition: 1110MHz; Inductance: 420nH; Rated Current: 425mA; Self Resonant Frequency: 1110MHz
footprint WE-RFI_0603
simulation model 0603_7447610242_0.42u
pins: 1, 2

## 7447610247
designator L?, comment 470nH  (value not drawn)
WE-RFI Ferrite SMT Inductor, size 0603, 470nH, 370mA, 1020MHz; Manufacturer Part Number: 7447610247; Manufacturer: Wurth Elektronik; Case/Size Code: 0603; DC Resistance Max: 285mOhm; Impedance @100MHz: 270Ohm; Impedance Max: 2265Ohm; Inductance Tolerance: +/-5%; Q Factor: 13; Category: RF Inductors; Match Code: WE-RFI; ComponentLink1Description: Website Link; ComponentLink1URL: https://www.we-online.com/redexpert/article/7447610247?ad; ComponentLink2Description: Datasheet Link; ComponentLink2URL: https://www.we-online.com/redexpert/spec/7447610247?ad; Mount: Surface Mount; Operating Temperature Max: 85°C; Operating Temperature Min: -40°C; Packaging: Tape and Reel; Length: 1.65mm; Width: 1.1mm; Height: 0.9mm; Impedance Max Test Condition: 1020MHz; Inductance: 470nH; Rated Current: 370mA; Self Resonant Frequency: 1020MHz
footprint WE-RFI_0603
simulation model 0603_7447610247_0.47u
pins: 1, 2

## 7447610256
designator L?, comment 560nH  (value not drawn)
WE-RFI Ferrite SMT Inductor, size 0603, 560nH, 390mA, 915MHz; Manufacturer Part Number: 7447610256; Manufacturer: Wurth Elektronik; Case/Size Code: 0603; DC Resistance Max: 270mOhm; Impedance @100MHz: 320Ohm; Impedance Max: 2820Ohm; Inductance Tolerance: +/-5%; Q Factor: 13; Category: RF Inductors; Match Code: WE-RFI; ComponentLink1Description: Website Link; ComponentLink1URL: https://www.we-online.com/redexpert/article/7447610256?ad; ComponentLink2Description: Datasheet Link; ComponentLink2URL: https://www.we-online.com/redexpert/spec/7447610256?ad; Mount: Surface Mount; Operating Temperature Max: 85°C; Operating Temperature Min: -40°C; Packaging: Tape and Reel; Length: 1.65mm; Width: 1.1mm; Height: 0.9mm; Impedance Max Test Condition: 915MHz; Inductance: 560nH; Rated Current: 390mA; Self Resonant Frequency: 915MHz
footprint WE-RFI_0603
simulation model 0603_7447610256_0.56u
pins: 1, 2

## 7447610260
designator L?, comment 600nH  (value not drawn)
WE-RFI Ferrite SMT Inductor, size 0603, 600nH, 330mA, 1000MHz; Manufacturer Part Number: 7447610260; Manufacturer: Wurth Elektronik; Case/Size Code: 0603; DC Resistance Max: 380mOhm; Impedance @100MHz: 320Ohm; Impedance Max: 2700Ohm; Inductance Tolerance: +/-5%; Q Factor: 13; Category: RF Inductors; Match Code: WE-RFI; ComponentLink1Description: Website Link; ComponentLink1URL: https://www.we-online.com/redexpert/article/7447610260?ad; ComponentLink2Description: Datasheet Link; ComponentLink2URL: https://www.we-online.com/redexpert/spec/7447610260?ad; Mount: Surface Mount; Operating Temperature Max: 85°C; Operating Temperature Min: -40°C; Packaging: Tape and Reel; Length: 1.65mm; Width: 1.1mm; Height: 0.9mm; Impedance Max Test Condition: 1000MHz; Inductance: 600nH; Rated Current: 330mA; Self Resonant Frequency: 1000MHz
footprint WE-RFI_0603
simulation model 0603_7447610260_0.6u
pins: 1, 2

## 7447610268
designator L?, comment 680nH  (value not drawn)
WE-RFI Ferrite SMT Inductor, size 0603, 680nH, 330mA, 770MHz; Manufacturer Part Number: 7447610268; Manufacturer: Wurth Elektronik; Case/Size Code: 0603; DC Resistance Max: 390mOhm; Impedance @100MHz: 350Ohm; Impedance Max: 3170Ohm; Inductance Tolerance: +/-5%; Q Factor: 13; Category: RF Inductors; Match Code: WE-RFI; ComponentLink1Description: Website Link; ComponentLink1URL: https://www.we-online.com/redexpert/article/7447610268?ad; ComponentLink2Description: Datasheet Link; ComponentLink2URL: https://www.we-online.com/redexpert/spec/7447610268?ad; Mount: Surface Mount; Operating Temperature Max: 85°C; Operating Temperature Min: -40°C; Packaging: Tape and Reel; Length: 1.65mm; Width: 1.1mm; Height: 0.9mm; Impedance Max Test Condition: 770MHz; Inductance: 680nH; Rated Current: 330mA; Self Resonant Frequency: 770MHz
footprint WE-RFI_0603
simulation model 0603_7447610268_0.68u
pins: 1, 2

## 7447610282
designator L?, comment 820nH  (value not drawn)
WE-RFI Ferrite SMT Inductor, size 0603, 820nH, 300mA, 830MHz; Manufacturer Part Number: 7447610282; Manufacturer: Wurth Elektronik; Case/Size Code: 0603; DC Resistance Max: 450mOhm; Impedance @100MHz: 440Ohm; Impedance Max: 3590Ohm; Inductance Tolerance: +/-5%; Q Factor: 13; Category: RF Inductors; Match Code: WE-RFI; ComponentLink1Description: Website Link; ComponentLink1URL: https://www.we-online.com/redexpert/article/7447610282?ad; ComponentLink2Description: Datasheet Link; ComponentLink2URL: https://www.we-online.com/redexpert/spec/7447610282?ad; Mount: Surface Mount; Operating Temperature Max: 85°C; Operating Temperature Min: -40°C; Packaging: Tape and Reel; Length: 1.65mm; Width: 1.1mm; Height: 0.9mm; Impedance Max Test Condition: 830MHz; Inductance: 820nH; Rated Current: 300mA; Self Resonant Frequency: 830MHz
footprint WE-RFI_0603
simulation model 0603_7447610282_0.82u
pins: 1, 2

## 7447610310
designator L?, comment 1000nH  (value not drawn)
WE-RFI Ferrite SMT Inductor, size 0603, 1000nH, 230mA, 680MHz; Manufacturer Part Number: 7447610310; Manufacturer: Wurth Elektronik; Case/Size Code: 0603; DC Resistance Max: 700mOhm; Impedance @100MHz: 535Ohm; Impedance Max: 4670Ohm; Inductance Tolerance: +/-5%; Q Factor: 13; Category: RF Inductors; Match Code: WE-RFI; ComponentLink1Description: Website Link; ComponentLink1URL: https://www.we-online.com/redexpert/article/7447610310?ad; ComponentLink2Description: Datasheet Link; ComponentLink2URL: https://www.we-online.com/redexpert/spec/7447610310?ad; Mount: Surface Mount; Operating Temperature Max: 85°C; Operating Temperature Min: -40°C; Packaging: Tape and Reel; Length: 1.65mm; Width: 1.1mm; Height: 0.9mm; Impedance Max Test Condition: 680MHz; Inductance: 1000nH; Rated Current: 230mA; Self Resonant Frequency: 680MHz
footprint WE-RFI_0603
simulation model 0603_7447610310_1u
pins: 1, 2